# Altium footprint library con-molex-micro-fit-3_0.PCBLIB: 194 footprints (part 3 of 13)
Each footprint in its own frame and in the unit in brackets; x right, y up, seen from the top. Pads: shape width x height; smd on the part's side, far side on the other; paste and mask are expansions set on the pad; w line width, h text height; cw(c..) or ccw(c..) is an arc to the next point about the centre after c.
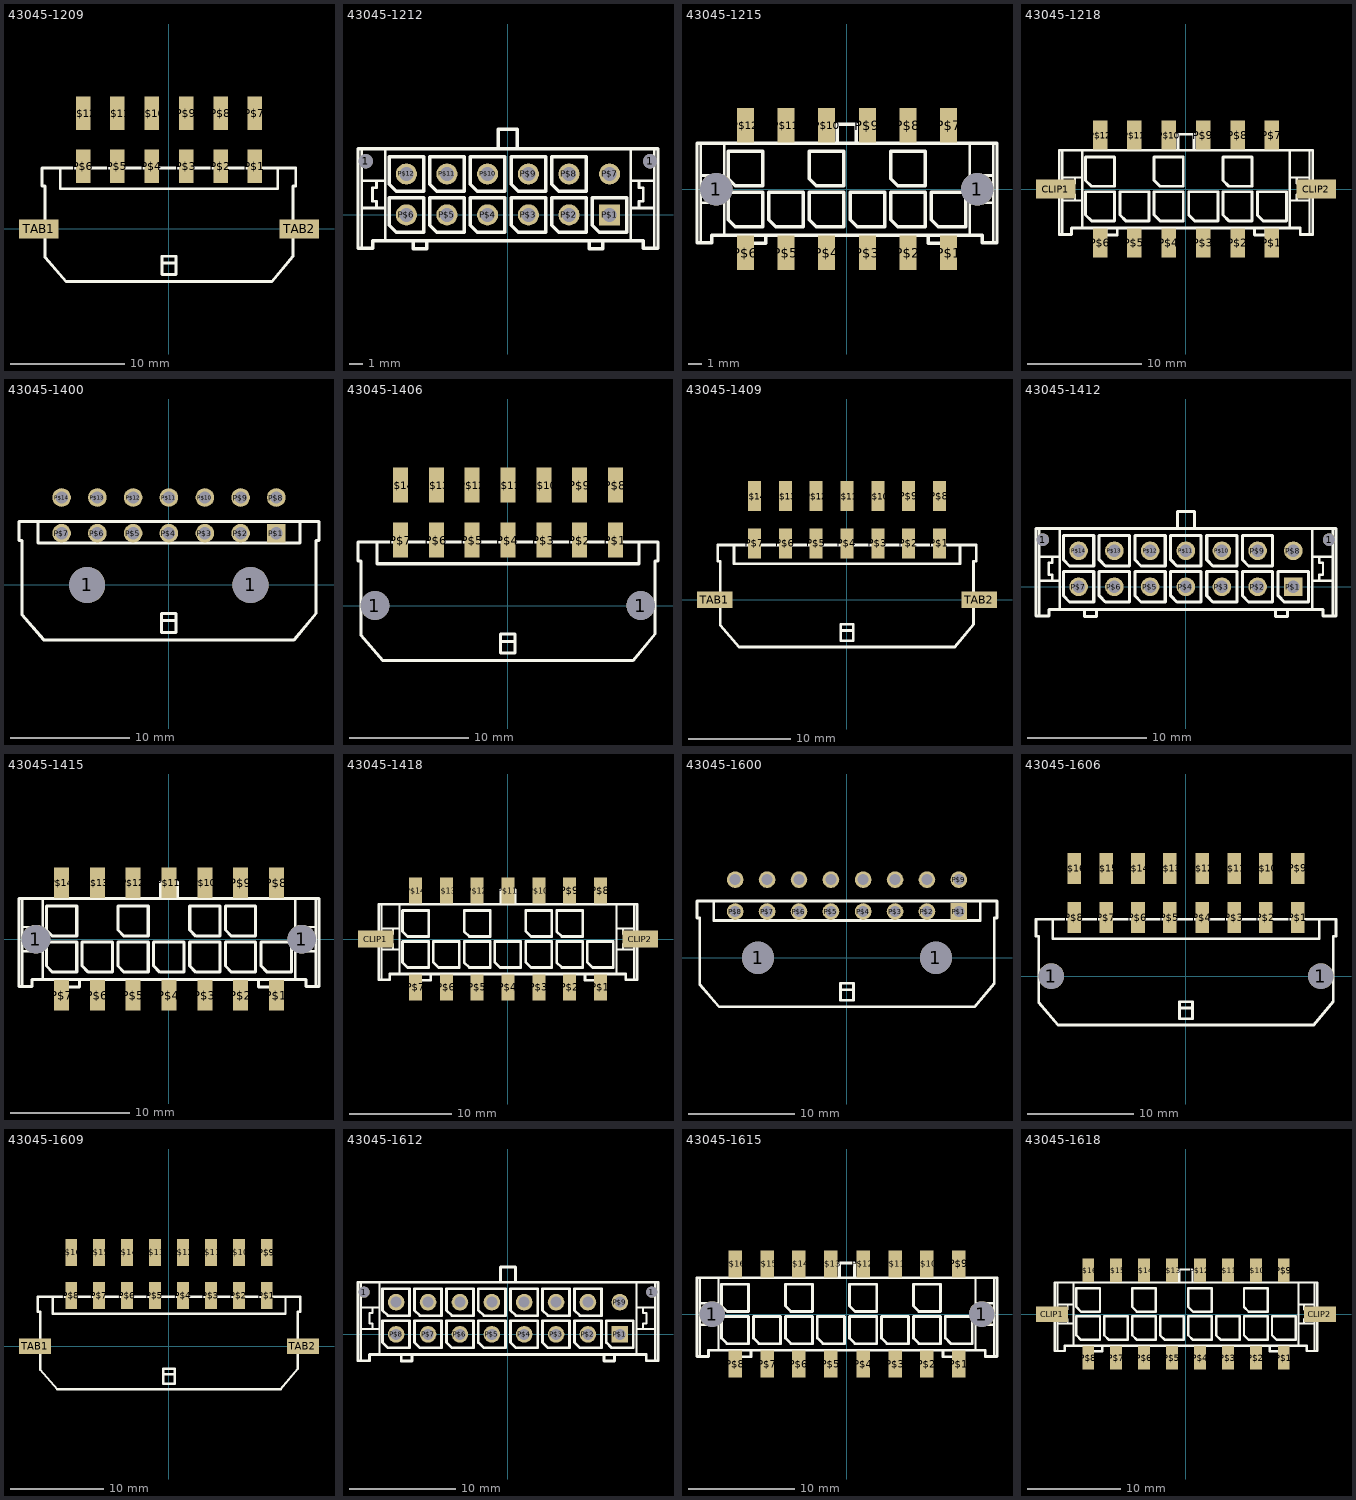
[diagram p2: the footprints below, top view; thin cyan lines are the x and y axes]

## 43045-1209 [mil]
pads (14):
  rect 50x115 smd: P$1(296,216) P$2(178,216) P$3(60,216) P$4(-59.06,216) P$5(-177.17,216) P$6(-295.28,216) P$7(296,398) P$8(178,398) P$9(60,398) P$10(-59.06,398) P$11(-177.17,398) P$12(-295.28,398)
  rect 136x65 smd: TAB1(-448.03,0) TAB2(449,0)
Top Overlay:
  lines w5: -190.16,210 -374.02,210 -189.96,210
  lines w10: -374.02,210 -436.22,210 -436.22,147 -426.18,147 -426.18,-98.43 -354.33,-181.1 355,-181.1 427,-94.49 427,147 437,147 437,210 375,210 ; -374.02,210 375,210 ; -374.02,210 -374.02,138 375,138 375,210 ; -23.62,-118.11 -23.62,-157.48 24,-157.48 24,-118.11 ; -23.62,-118.11 -23.62,-94.49 24,-94.49 24,-118.11 ; -23.62,-118.11 24,-118.11

## 43045-1212 [mil]
pads (14):
  round 41 hole 41: 1(-413.39,156) 1(414,156)
  rect 61.5x61.5 hole 41: P$1(296,0)
  round 61.5 hole 41: P$2(178,0) P$3(60,0) P$4(-59.06,0) P$5(-177.17,0) P$6(-295.28,0) P$7(296,119) P$8(178,119) P$9(60,119) P$10(-59.06,119) P$11(-177.17,119) P$12(-295.28,119)
Top Overlay:
  lines w8: -425.2,-97.24 -425.2,20 ; -425.2,193 -425.2,99 ; -357.09,-74.8 -357.09,20 ; -357.09,193 -357.09,99 ; 358,-74.8 358,20 ; 358,193 358,99 ; 426,-97.24 426,20 ; 426,193 426,99 ; -425.2,20 -425.2,99 ; -425.2,20 -381.89,20 ; -425.2,99 -381.89,99 ; -381.89,20 -357.09,20 ; -381.89,20 -381.89,40 -393.7,40 -393.7,79 -381.89,79 -381.89,99 ; -381.89,99 -357.09,99 ; -357.09,20 -357.09,99 ; 358,20 358,99 ; 358,20 382,20 ; 358,99 382,99 ; 382,20 426,20 ; 382,20 382,40 394,40 394,79 382,79 382,99 ; 382,99 426,99 ; 426,20 426,99
  lines w10: -275.59,-74.8 -236.22,-74.8 ; -275.59,-74.8 -357.09,-74.8 -393.7,-74.8 -393.7,-97.24 -425.2,-97.24 -436.02,-97.24 -436.02,193 -425.2,193 -357.09,193 -27.56,193 ; -275.59,-74.8 -275.59,-98.43 -236.22,-98.43 -236.22,-74.8 ; -236.22,-74.8 237,-74.8 ; -27.56,193 28,193 ; -27.56,193 -27.56,249 28,249 28,193 ; 28,193 358,193 426,193 437,193 437,-97.24 426,-97.24 394,-97.24 394,-74.8 358,-74.8 276,-74.8 ; 237,-74.8 276,-74.8 ; 237,-74.8 237,-98.43 276,-98.43 276,-74.8 ; -345.28,-30 -345.28,50 -245.28,50 -245.28,-50 -325.28,-50 -345.28,-30 ; -345.28,89 -345.28,169 -245.28,169 -245.28,69 -325.28,69 -345.28,89 ; -227.17,-30 -227.17,50 -127.17,50 -127.17,-50 -207.17,-50 -227.17,-30 ; -227.17,89 -227.17,169 -127.17,169 -127.17,69 -207.17,69 -227.17,89 ; -109.06,-30 -109.06,50 -9.06,50 -9.06,-50 -89.06,-50 -109.06,-30 ; -109.06,89 -109.06,169 -9.06,169 -9.06,69 -89.06,69 -109.06,89 ; 10,-30 10,50 110,50 110,-50 30,-50 10,-30 ; 10,89 10,169 110,169 110,69 30,69 10,89 ; 128,-30 128,50 228,50 228,-50 148,-50 128,-30 ; 128,89 128,169 228,169 228,69 148,69 128,89 ; 246,-30 246,50 346,50 346,-50 266,-50 246,-30
Bottom Overlay:
  lines w10: 246,69 246,169 346,169 346,89 326,69 246,69

## 43045-1215 [mil]
pads (14):
  round 95 hole 95: 1(-379.92,0) 1(380,0)
  rect 50x100 smd: P$1(296,-185.04) P$2(178,-185.04) P$3(60,-185.04) P$4(-59.06,-185.04) P$5(-177.17,-185.04) P$6(-295.28,-185.04) P$7(296,186) P$8(178,186) P$9(60,186) P$10(-59.06,186) P$11(-177.17,186) P$12(-295.28,186)
Top Overlay:
  lines w8: -425.2,-156.3 -425.2,-39.37 ; -425.2,134 -425.2,40 ; -357.09,-133.86 -357.09,-39.37 ; -357.09,134 -357.09,40 ; 358,-133.86 358,-39.37 ; 358,134 358,40 ; 426,-156.3 426,-39.37 ; 426,134 426,40 ; -425.2,-39.37 -425.2,40 ; -425.2,-39.37 -381.89,-39.37 ; -425.2,40 -381.89,40 ; -381.89,-39.37 -357.09,-39.37 ; -381.89,-39.37 -381.89,-19.68 -393.7,-19.68 -393.7,20 -381.89,20 -381.89,40 ; -381.89,40 -357.09,40 ; -357.09,-39.37 -357.09,40 ; 358,-39.37 358,40 ; 358,-39.37 382,-39.37 ; 358,40 382,40 ; 382,-39.37 426,-39.37 ; 382,-39.37 382,-19.68 394,-19.68 394,20 382,20 382,40 ; 382,40 426,40 ; 426,-39.37 426,40
  lines w10: -275.59,-133.86 -236.22,-133.86 ; -275.59,-133.86 -357.09,-133.86 -393.7,-133.86 -393.7,-156.3 -425.2,-156.3 -436.02,-156.3 -436.02,134 -425.2,134 -357.09,134 -27.56,134 ; -275.59,-133.86 -275.59,-157.48 -236.22,-157.48 -236.22,-133.86 ; -236.22,-133.86 237,-133.86 ; -27.56,134 28,134 ; -27.56,134 -27.56,189 28,189 28,134 ; 28,134 358,134 426,134 437,134 437,-156.3 426,-156.3 394,-156.3 394,-133.86 358,-133.86 276,-133.86 ; 237,-133.86 276,-133.86 ; 237,-133.86 237,-157.48 276,-157.48 276,-133.86 ; -345.28,-89.06 -345.28,-9.06 -245.28,-9.06 -245.28,-109.06 -325.28,-109.06 -345.28,-89.06 ; -345.28,30 -345.28,110 -245.28,110 -245.28,10 -325.28,10 -345.28,30 ; -227.17,-89.06 -227.17,-9.06 -127.17,-9.06 -127.17,-109.06 -207.17,-109.06 -227.17,-89.06 ; -109.06,-89.06 -109.06,-9.06 -9.06,-9.06 -9.06,-109.06 -89.06,-109.06 -109.06,-89.06 ; -109.06,30 -109.06,110 -9.06,110 -9.06,10 -89.06,10 -109.06,30 ; 10,-89.06 10,-9.06 110,-9.06 110,-109.06 30,-109.06 10,-89.06 ; 128,-89.06 128,-9.06 228,-9.06 228,-109.06 148,-109.06 128,-89.06 ; 128,30 128,110 228,110 228,10 148,10 128,30 ; 246,-89.06 246,-9.06 346,-9.06 346,-109.06 266,-109.06 246,-89.06
Bottom Overlay:
  lines w10: -227.17,10 -227.17,110 -127.17,110 -127.17,30 -147.17,10 -227.17,10 ; 10,10 10,110 110,110 110,30 90,10 10,10 ; 246,10 246,110 346,110 346,30 326,10 246,10

## 43045-1218 [mil]
pads (14):
  rect 136x65 smd: CLIP1(-448.03,0) CLIP2(449,0)
  rect 50x100 smd: P$1(296,-185.04) P$2(178,-185.04) P$3(60,-185.04) P$4(-59.06,-185.04) P$5(-177.17,-185.04) P$6(-295.28,-185.04) P$7(296,186) P$8(178,186) P$9(60,186) P$10(-59.06,186) P$11(-177.17,186) P$12(-295.28,186)
Top Overlay:
  lines w8: -425.2,-156.3 -425.2,-39.37 ; -425.2,134 -425.2,40 ; -357.09,-133.86 -357.09,-39.37 ; -357.09,134 -357.09,40 ; 358,-133.86 358,-39.37 ; 358,134 358,40 ; 426,-156.3 426,-39.37 ; 426,134 426,40 ; -425.2,-39.37 -425.2,40 ; -425.2,-39.37 -381.89,-39.37 ; -425.2,40 -381.89,40 ; -381.89,-39.37 -357.09,-39.37 ; -381.89,-39.37 -381.89,-19.68 -393.7,-19.68 -393.7,20 -381.89,20 -381.89,40 ; -381.89,40 -357.09,40 ; -357.09,-39.37 -357.09,40 ; 358,-39.37 358,40 ; 358,-39.37 382,-39.37 ; 358,40 382,40 ; 382,-39.37 426,-39.37 ; 382,-39.37 382,-19.68 394,-19.68 394,20 382,20 382,40 ; 382,40 426,40 ; 426,-39.37 426,40
  lines w10: -275.59,-133.86 -236.22,-133.86 ; -275.59,-133.86 -357.09,-133.86 -393.7,-133.86 -393.7,-156.3 -425.2,-156.3 -436.02,-156.3 -436.02,134 -425.2,134 -357.09,134 -27.56,134 ; -275.59,-133.86 -275.59,-157.48 -236.22,-157.48 -236.22,-133.86 ; -236.22,-133.86 237,-133.86 ; -27.56,134 28,134 ; -27.56,134 -27.56,189 28,189 28,134 ; 28,134 358,134 426,134 437,134 437,-156.3 426,-156.3 394,-156.3 394,-133.86 358,-133.86 276,-133.86 ; 237,-133.86 276,-133.86 ; 237,-133.86 237,-157.48 276,-157.48 276,-133.86 ; -345.28,-89.06 -345.28,-9.06 -245.28,-9.06 -245.28,-109.06 -325.28,-109.06 -345.28,-89.06 ; -345.28,30 -345.28,110 -245.28,110 -245.28,10 -325.28,10 -345.28,30 ; -227.17,-89.06 -227.17,-9.06 -127.17,-9.06 -127.17,-109.06 -207.17,-109.06 -227.17,-89.06 ; -109.06,-89.06 -109.06,-9.06 -9.06,-9.06 -9.06,-109.06 -89.06,-109.06 -109.06,-89.06 ; -109.06,30 -109.06,110 -9.06,110 -9.06,10 -89.06,10 -109.06,30 ; 10,-89.06 10,-9.06 110,-9.06 110,-109.06 30,-109.06 10,-89.06 ; 128,-89.06 128,-9.06 228,-9.06 228,-109.06 148,-109.06 128,-89.06 ; 128,30 128,110 228,110 228,10 148,10 128,30 ; 246,-89.06 246,-9.06 346,-9.06 346,-109.06 266,-109.06 246,-89.06
Bottom Overlay:
  lines w10: -227.17,10 -227.17,110 -127.17,110 -127.17,30 -147.17,10 -227.17,10 ; 10,10 10,110 110,110 110,30 90,10 10,10 ; 246,10 246,110 346,110 346,30 326,10 246,10

## 43045-1400 [mil]
pads (16):
  round 119 hole 119: 1(-269.69,0) 1(270,0)
  rect 61.5x61.5 hole 41: P$1(355,171)
  round 61.5 hole 41: P$2(237,171) P$3(119,171) P$4(0,171) P$5(-118.11,171) P$6(-236.22,171) P$7(-354.33,171) P$8(355,289) P$9(237,289) P$10(119,289) P$11(0,289) P$12(-118.11,289) P$13(-236.22,289) P$14(-354.33,289)
Top Overlay:
  lines w5: -190.16,210 -433.07,210 -189.96,210
  lines w10: -433.07,210 -495.08,210 -495.08,147 -485.24,147 -485.24,-98.43 -413.39,-181.1 414,-181.1 486,-94.49 486,147 496,147 496,210 434,210 ; -433.07,210 434,210 ; -433.07,210 -433.07,138 434,138 434,210 ; -23.62,-118.11 -23.62,-157.48 24,-157.48 24,-118.11 ; -23.62,-118.11 -23.62,-94.49 24,-94.49 24,-118.11 ; -23.62,-118.11 24,-118.11

## 43045-1406 [mil]
pads (16):
  round 95 hole 95: 1(-438.98,0) 1(439,0)
  rect 50x115 smd: P$1(355,216) P$2(237,216) P$3(119,216) P$4(0,216) P$5(-118.11,216) P$6(-236.22,216) P$7(-354.33,216) P$8(355,398) P$9(237,398) P$10(119,398) P$11(0,398) P$12(-118.11,398) P$13(-236.22,398) P$14(-354.33,398)
Top Overlay:
  lines w5: -190.16,210 -433.07,210 -189.96,210
  lines w10: -433.07,210 -495.08,210 -495.08,147 -485.24,147 -485.24,-98.43 -413.39,-181.1 414,-181.1 486,-94.49 486,147 496,147 496,210 434,210 ; -433.07,210 434,210 ; -433.07,210 -433.07,138 434,138 434,210 ; -23.62,-118.11 -23.62,-157.48 24,-157.48 24,-118.11 ; -23.62,-118.11 -23.62,-94.49 24,-94.49 24,-118.11 ; -23.62,-118.11 24,-118.11

## 43045-1409 [mil]
pads (16):
  rect 50x115 smd: P$1(355,216) P$2(237,216) P$3(119,216) P$4(0,216) P$5(-118.11,216) P$6(-236.22,216) P$7(-354.33,216) P$8(355,398) P$9(237,398) P$10(119,398) P$11(0,398) P$12(-118.11,398) P$13(-236.22,398) P$14(-354.33,398)
  rect 136x65 smd: TAB1(-507.09,0) TAB2(508,0)
Top Overlay:
  lines w5: -190.16,210 -433.07,210 -189.96,210
  lines w10: -433.07,210 -495.08,210 -495.08,147 -485.24,147 -485.24,-98.43 -413.39,-181.1 414,-181.1 486,-94.49 486,147 496,147 496,210 434,210 ; -433.07,210 434,210 ; -433.07,210 -433.07,138 434,138 434,210 ; -23.62,-118.11 -23.62,-157.48 24,-157.48 24,-118.11 ; -23.62,-118.11 -23.62,-94.49 24,-94.49 24,-118.11 ; -23.62,-118.11 24,-118.11

## 43045-1412 [mil]
pads (16):
  round 41 hole 41: 1(-472.44,156) 1(473,156)
  rect 61.5x61.5 hole 41: P$1(355,0)
  round 61.5 hole 41: P$2(237,0) P$3(119,0) P$4(0,0) P$5(-118.11,0) P$6(-236.22,0) P$7(-354.33,0) P$8(355,119) P$9(237,119) P$10(119,119) P$11(0,119) P$12(-118.11,119) P$13(-236.22,119) P$14(-354.33,119)
Top Overlay:
  lines w8: -484.25,-97.24 -484.25,20 ; -484.25,193 -484.25,99 ; -416.14,-74.8 -416.14,20 ; -416.14,193 -416.14,99 ; 417,-74.8 417,20 ; 417,193 417,99 ; 485,-97.24 485,20 ; 485,193 485,99 ; -484.25,20 -440.94,20 ; -484.25,20 -484.25,99 ; -484.25,99 -440.94,99 ; -440.94,20 -440.94,40 -452.76,40 -452.76,79 -440.94,79 -440.94,99 ; -440.94,20 -416.14,20 ; -440.94,99 -416.14,99 ; -416.14,20 -416.14,99 ; 417,20 441,20 ; 417,20 417,99 ; 417,99 441,99 ; 441,20 441,40 453,40 453,79 441,79 441,99 ; 441,20 485,20 ; 441,99 485,99 ; 485,20 485,99
  lines w10: -334.65,-74.8 -334.65,-98.43 -295.28,-98.43 -295.28,-74.8 ; -334.65,-74.8 -416.14,-74.8 -452.76,-74.8 -452.76,-97.24 -484.25,-97.24 -495.08,-97.24 -495.08,193 -484.25,193 -416.14,193 -27.56,193 ; -334.65,-74.8 -295.28,-74.8 ; -295.28,-74.8 296,-74.8 ; -27.56,193 -27.56,249 28,249 28,193 ; -27.56,193 28,193 ; 28,193 417,193 485,193 496,193 496,-97.24 485,-97.24 453,-97.24 453,-74.8 417,-74.8 335,-74.8 ; 296,-74.8 296,-98.43 335,-98.43 335,-74.8 ; 296,-74.8 335,-74.8 ; -404.33,-30 -384.33,-50 -304.33,-50 -304.33,50 -404.33,50 -404.33,-30 ; -404.33,89 -384.33,69 -304.33,69 -304.33,169 -404.33,169 -404.33,89 ; -286.22,-30 -266.22,-50 -186.22,-50 -186.22,50 -286.22,50 -286.22,-30 ; -286.22,89 -266.22,69 -186.22,69 -186.22,169 -286.22,169 -286.22,89 ; -168.11,-30 -148.11,-50 -68.11,-50 -68.11,50 -168.11,50 -168.11,-30 ; -168.11,89 -148.11,69 -68.11,69 -68.11,169 -168.11,169 -168.11,89 ; -50,-30 -30,-50 50,-50 50,50 -50,50 -50,-30 ; -50,89 -30,69 50,69 50,169 -50,169 -50,89 ; 69,-30 89,-50 169,-50 169,50 69,50 69,-30 ; 69,89 89,69 169,69 169,169 69,169 69,89 ; 187,-30 207,-50 287,-50 287,50 187,50 187,-30 ; 187,89 207,69 287,69 287,169 187,169 187,89 ; 305,-30 325,-50 405,-50 405,50 305,50 305,-30
Bottom Overlay:
  lines w10: 305,69 385,69 405,89 405,169 305,169 305,69

## 43045-1415 [mil]
pads (16):
  round 95 hole 95: 1(-438.98,0) 1(439,0)
  rect 50x100 smd: P$1(355,-185.04) P$2(237,-185.04) P$3(119,-185.04) P$4(0,-185.04) P$5(-118.11,-185.04) P$6(-236.22,-185.04) P$7(-354.33,-185.04) P$8(355,186) P$9(237,186) P$10(119,186) P$11(0,186) P$12(-118.11,186) P$13(-236.22,186) P$14(-354.33,186)
Top Overlay:
  lines w8: -484.25,-156.3 -484.25,-39.37 ; -484.25,134 -484.25,40 ; -416.14,-133.86 -416.14,-39.37 ; -416.14,134 -416.14,40 ; 417,-133.86 417,-39.37 ; 417,134 417,40 ; 485,-156.3 485,-39.37 ; 485,134 485,40 ; -484.25,-39.37 -484.25,40 ; -484.25,-39.37 -440.94,-39.37 ; -484.25,40 -440.94,40 ; -440.94,-39.37 -416.14,-39.37 ; -440.94,-39.37 -440.94,-19.68 -452.76,-19.68 -452.76,20 -440.94,20 -440.94,40 ; -440.94,40 -416.14,40 ; -416.14,-39.37 -416.14,40 ; 417,-39.37 417,40 ; 417,-39.37 441,-39.37 ; 417,40 441,40 ; 441,-39.37 485,-39.37 ; 441,-39.37 441,-19.68 453,-19.68 453,20 441,20 441,40 ; 441,40 485,40 ; 485,-39.37 485,40
  lines w10: -334.65,-133.86 -295.28,-133.86 ; -334.65,-133.86 -416.14,-133.86 -452.76,-133.86 -452.76,-156.3 -484.25,-156.3 -495.08,-156.3 -495.08,134 -484.25,134 -416.14,134 -27.56,134 ; -334.65,-133.86 -334.65,-157.48 -295.28,-157.48 -295.28,-133.86 ; -295.28,-133.86 296,-133.86 ; -27.56,134 28,134 ; -27.56,134 -27.56,189 28,189 28,134 ; 28,134 417,134 485,134 496,134 496,-156.3 485,-156.3 453,-156.3 453,-133.86 417,-133.86 335,-133.86 ; 296,-133.86 335,-133.86 ; 296,-133.86 296,-157.48 335,-157.48 335,-133.86 ; -404.33,-89.06 -404.33,-9.06 -304.33,-9.06 -304.33,-109.06 -384.33,-109.06 -404.33,-89.06 ; -404.33,30 -404.33,110 -304.33,110 -304.33,10 -384.33,10 -404.33,30 ; -286.22,-89.06 -286.22,-9.06 -186.22,-9.06 -186.22,-109.06 -266.22,-109.06 -286.22,-89.06 ; -168.11,-89.06 -168.11,-9.06 -68.11,-9.06 -68.11,-109.06 -148.11,-109.06 -168.11,-89.06 ; -168.11,30 -168.11,110 -68.11,110 -68.11,10 -148.11,10 -168.11,30 ; -50,-89.06 -50,-9.06 50,-9.06 50,-109.06 -30,-109.06 -50,-89.06 ; 69,-89.06 69,-9.06 169,-9.06 169,-109.06 89,-109.06 69,-89.06 ; 69,30 69,110 169,110 169,10 89,10 69,30 ; 187,-89.06 187,-9.06 287,-9.06 287,-109.06 207,-109.06 187,-89.06 ; 187,30 187,110 287,110 287,10 207,10 187,30 ; 305,-89.06 305,-9.06 405,-9.06 405,-109.06 325,-109.06 305,-89.06
Bottom Overlay:
  lines w10: -286.22,10 -286.22,110 -186.22,110 -186.22,30 -206.22,10 -286.22,10 ; -50,10 -50,110 50,110 50,30 30,10 -50,10 ; 305,10 305,110 405,110 405,30 385,10 305,10

## 43045-1418 [mil]
pads (16):
  rect 136x65 smd: CLIP1(-507.09,0) CLIP2(508,0)
  rect 50x100 smd: P$1(355,-185.04) P$2(237,-185.04) P$3(119,-185.04) P$4(0,-185.04) P$5(-118.11,-185.04) P$6(-236.22,-185.04) P$7(-354.33,-185.04) P$8(355,186) P$9(237,186) P$10(119,186) P$11(0,186) P$12(-118.11,186) P$13(-236.22,186) P$14(-354.33,186)
Top Overlay:
  lines w8: -484.25,-156.3 -484.25,-39.37 ; -484.25,134 -484.25,40 ; -416.14,-133.86 -416.14,-39.37 ; -416.14,134 -416.14,40 ; 417,-133.86 417,-39.37 ; 417,134 417,40 ; 485,-156.3 485,-39.37 ; 485,134 485,40 ; -484.25,-39.37 -484.25,40 ; -484.25,-39.37 -440.94,-39.37 ; -484.25,40 -440.94,40 ; -440.94,-39.37 -416.14,-39.37 ; -440.94,-39.37 -440.94,-19.68 -452.76,-19.68 -452.76,20 -440.94,20 -440.94,40 ; -440.94,40 -416.14,40 ; -416.14,-39.37 -416.14,40 ; 417,-39.37 417,40 ; 417,-39.37 441,-39.37 ; 417,40 441,40 ; 441,-39.37 485,-39.37 ; 441,-39.37 441,-19.68 453,-19.68 453,20 441,20 441,40 ; 441,40 485,40 ; 485,-39.37 485,40
  lines w10: -334.65,-133.86 -295.28,-133.86 ; -334.65,-133.86 -416.14,-133.86 -452.76,-133.86 -452.76,-156.3 -484.25,-156.3 -495.08,-156.3 -495.08,134 -484.25,134 -416.14,134 -27.56,134 ; -334.65,-133.86 -334.65,-157.48 -295.28,-157.48 -295.28,-133.86 ; -295.28,-133.86 296,-133.86 ; -27.56,134 28,134 ; -27.56,134 -27.56,189 28,189 28,134 ; 28,134 417,134 485,134 496,134 496,-156.3 485,-156.3 453,-156.3 453,-133.86 417,-133.86 335,-133.86 ; 296,-133.86 335,-133.86 ; 296,-133.86 296,-157.48 335,-157.48 335,-133.86 ; -404.33,-89.06 -404.33,-9.06 -304.33,-9.06 -304.33,-109.06 -384.33,-109.06 -404.33,-89.06 ; -404.33,30 -404.33,110 -304.33,110 -304.33,10 -384.33,10 -404.33,30 ; -286.22,-89.06 -286.22,-9.06 -186.22,-9.06 -186.22,-109.06 -266.22,-109.06 -286.22,-89.06 ; -168.11,-89.06 -168.11,-9.06 -68.11,-9.06 -68.11,-109.06 -148.11,-109.06 -168.11,-89.06 ; -168.11,30 -168.11,110 -68.11,110 -68.11,10 -148.11,10 -168.11,30 ; -50,-89.06 -50,-9.06 50,-9.06 50,-109.06 -30,-109.06 -50,-89.06 ; 69,-89.06 69,-9.06 169,-9.06 169,-109.06 89,-109.06 69,-89.06 ; 69,30 69,110 169,110 169,10 89,10 69,30 ; 187,-89.06 187,-9.06 287,-9.06 287,-109.06 207,-109.06 187,-89.06 ; 187,30 187,110 287,110 287,10 207,10 187,30 ; 305,-89.06 305,-9.06 405,-9.06 405,-109.06 325,-109.06 305,-89.06
Bottom Overlay:
  lines w10: -286.22,10 -286.22,110 -186.22,110 -186.22,30 -206.22,10 -286.22,10 ; -50,10 -50,110 50,110 50,30 30,10 -50,10 ; 305,10 305,110 405,110 405,30 385,10 305,10

## 43045-1600 [mil]
pads (18):
  round 119 hole 119: 1(-328.74,0) 1(329,0)
  rect 61.5x61.5 hole 41: P$1(414,171)
  round 61.5 hole 41: P$2(296,171) P$3(178,171) P$4(60,171) P$5(-59.06,171) P$6(-177.17,171) P$7(-295.28,171) P$8(-413.39,171) P$9(414,289) P$10(296,289) P$11(178,289) P$12(60,289) P$13(-59.06,289) P$14(-177.17,289) P$15(-295.28,289) P$16(-413.39,289)
Top Overlay:
  lines w5: -190.16,210 -492.13,210 -189.96,210
  lines w10: -492.13,210 -554.33,210 -554.33,147 -544.29,147 -544.29,-98.43 -472.44,-181.1 473,-181.1 545,-94.49 545,147 555,147 555,210 493,210 ; -492.13,210 493,210 ; -492.13,210 -492.13,138 493,138 493,210 ; -23.62,-118.11 -23.62,-157.48 24,-157.48 24,-118.11 ; -23.62,-118.11 -23.62,-94.49 24,-94.49 24,-118.11 ; -23.62,-118.11 24,-118.11

## 43045-1606 [mil]
pads (18):
  round 95 hole 95: 1(-498.03,0) 1(499,0)
  rect 50x115 smd: P$1(414,216) P$2(296,216) P$3(178,216) P$4(60,216) P$5(-59.06,216) P$6(-177.17,216) P$7(-295.28,216) P$8(-413.39,216) P$9(414,398) P$10(296,398) P$11(178,398) P$12(60,398) P$13(-59.06,398) P$14(-177.17,398) P$15(-295.28,398) P$16(-413.39,398)
Top Overlay:
  lines w5: -190.16,210 -492.13,210 -189.96,210
  lines w10: -492.13,210 -554.33,210 -554.33,147 -544.29,147 -544.29,-98.43 -472.44,-181.1 473,-181.1 545,-94.49 545,147 555,147 555,210 493,210 ; -492.13,210 493,210 ; -492.13,210 -492.13,138 493,138 493,210 ; -23.62,-118.11 -23.62,-157.48 24,-157.48 24,-118.11 ; -23.62,-118.11 -23.62,-94.49 24,-94.49 24,-118.11 ; -23.62,-118.11 24,-118.11

## 43045-1609 [mil]
pads (18):
  rect 50x115 smd: P$1(414,216) P$2(296,216) P$3(178,216) P$4(60,216) P$5(-59.06,216) P$6(-177.17,216) P$7(-295.28,216) P$8(-413.39,216) P$9(414,398) P$10(296,398) P$11(178,398) P$12(60,398) P$13(-59.06,398) P$14(-177.17,398) P$15(-295.28,398) P$16(-413.39,398)
  rect 136x65 smd: TAB1(-566.14,0) TAB2(567,0)
Top Overlay:
  lines w5: -190.16,210 -492.13,210 -189.96,210
  lines w10: -492.13,210 -554.33,210 -554.33,147 -544.29,147 -544.29,-98.43 -472.44,-181.1 473,-181.1 545,-94.49 545,147 555,147 555,210 493,210 ; -492.13,210 493,210 ; -492.13,210 -492.13,138 493,138 493,210 ; -23.62,-118.11 -23.62,-157.48 24,-157.48 24,-118.11 ; -23.62,-118.11 -23.62,-94.49 24,-94.49 24,-118.11 ; -23.62,-118.11 24,-118.11

## 43045-1612 [mil]
pads (18):
  round 41 hole 41: 1(-531.5,156) 1(532,156)
  rect 61.5x61.5 hole 41: P$1(414,0)
  round 61.5 hole 41: P$2(296,0) P$3(178,0) P$4(60,0) P$5(-59.06,0) P$6(-177.17,0) P$7(-295.28,0) P$8(-413.39,0) P$9(414,119) P$10(296,119) P$11(178,119) P$12(60,119) P$13(-59.06,119) P$14(-177.17,119) P$15(-295.28,119) P$16(-413.39,119)
Top Overlay:
  lines w8: -543.31,-97.24 -543.31,20 ; -543.31,193 -543.31,99 ; -475.2,-74.8 -475.2,20 ; -475.2,193 -475.2,99 ; 476,-74.8 476,20 ; 476,193 476,99 ; 544,-97.24 544,20 ; 544,193 544,99 ; -543.31,20 -543.31,99 ; -543.31,20 -500,20 ; -543.31,99 -500,99 ; -500,20 -475.2,20 ; -500,20 -500,40 -511.81,40 -511.81,79 -500,79 -500,99 ; -500,99 -475.2,99 ; -475.2,20 -475.2,99 ; 476,20 476,99 ; 476,20 500,20 ; 476,99 500,99 ; 500,20 544,20 ; 500,20 500,40 512,40 512,79 500,79 500,99 ; 500,99 544,99 ; 544,20 544,99
  lines w10: -393.7,-74.8 -354.33,-74.8 ; -393.7,-74.8 -475.2,-74.8 -511.81,-74.8 -511.81,-97.24 -543.31,-97.24 -554.13,-97.24 -554.13,193 -543.31,193 -475.2,193 -27.56,193 ; -393.7,-74.8 -393.7,-98.43 -354.33,-98.43 -354.33,-74.8 ; -354.33,-74.8 355,-74.8 ; -27.56,193 28,193 ; -27.56,193 -27.56,249 28,249 28,193 ; 28,193 476,193 544,193 555,193 555,-97.24 544,-97.24 512,-97.24 512,-74.8 476,-74.8 394,-74.8 ; 355,-74.8 394,-74.8 ; 355,-74.8 355,-98.43 394,-98.43 394,-74.8 ; -463.39,-30 -463.39,50 -363.39,50 -363.39,-50 -443.39,-50 -463.39,-30 ; -463.39,89 -463.39,169 -363.39,169 -363.39,69 -443.39,69 -463.39,89 ; -345.28,-30 -345.28,50 -245.28,50 -245.28,-50 -325.28,-50 -345.28,-30 ; -345.28,89 -345.28,169 -245.28,169 -245.28,69 -325.28,69 -345.28,89 ; -227.17,-30 -227.17,50 -127.17,50 -127.17,-50 -207.17,-50 -227.17,-30 ; -227.17,89 -227.17,169 -127.17,169 -127.17,69 -207.17,69 -227.17,89 ; -109.06,-30 -109.06,50 -9.06,50 -9.06,-50 -89.06,-50 -109.06,-30 ; -109.06,89 -109.06,169 -9.06,169 -9.06,69 -89.06,69 -109.06,89 ; 10,-30 10,50 110,50 110,-50 30,-50 10,-30 ; 10,89 10,169 110,169 110,69 30,69 10,89 ; 128,-30 128,50 228,50 228,-50 148,-50 128,-30 ; 128,89 128,169 228,169 228,69 148,69 128,89 ; 246,-30 246,50 346,50 346,-50 266,-50 246,-30 ; 246,89 246,169 346,169 346,69 266,69 246,89 ; 364,-30 364,50 464,50 464,-50 384,-50 364,-30
Bottom Overlay:
  lines w10: 364,69 364,169 464,169 464,89 444,69 364,69

## 43045-1615 [mil]
pads (18):
  round 95 hole 95: 1(-498.03,0) 1(499,0)
  rect 50x100 smd: P$1(414,-185.04) P$2(296,-185.04) P$3(178,-185.04) P$4(60,-185.04) P$5(-59.06,-185.04) P$6(-177.17,-185.04) P$7(-295.28,-185.04) P$8(-413.39,-185.04) P$9(414,186) P$10(296,186) P$11(178,186) P$12(60,186) P$13(-59.06,186) P$14(-177.17,186) P$15(-295.28,186) P$16(-413.39,186)
Top Overlay:
  lines w8: -543.31,-156.3 -543.31,-39.37 ; -543.31,134 -543.31,40 ; -475.2,-133.86 -475.2,-39.37 ; -475.2,134 -475.2,40 ; 476,-133.86 476,-39.37 ; 476,134 476,40 ; 544,-156.3 544,-39.37 ; 544,134 544,40 ; -543.31,-39.37 -543.31,40 ; -543.31,-39.37 -500,-39.37 ; -543.31,40 -500,40 ; -500,-39.37 -475.2,-39.37 ; -500,-39.37 -500,-19.68 -511.81,-19.68 -511.81,20 -500,20 -500,40 ; -500,40 -475.2,40 ; -475.2,-39.37 -475.2,40 ; 476,-39.37 476,40 ; 476,-39.37 500,-39.37 ; 476,40 500,40 ; 500,-39.37 544,-39.37 ; 500,-39.37 500,-19.68 512,-19.68 512,20 500,20 500,40 ; 500,40 544,40 ; 544,-39.37 544,40
  lines w10: -393.7,-133.86 -354.33,-133.86 ; -393.7,-133.86 -475.2,-133.86 -511.81,-133.86 -511.81,-156.3 -543.31,-156.3 -554.13,-156.3 -554.13,134 -543.31,134 -475.2,134 -27.56,134 ; -393.7,-133.86 -393.7,-157.48 -354.33,-157.48 -354.33,-133.86 ; -354.33,-133.86 355,-133.86 ; -27.56,134 28,134 ; -27.56,134 -27.56,189 28,189 28,134 ; 28,134 476,134 544,134 555,134 555,-156.3 544,-156.3 512,-156.3 512,-133.86 476,-133.86 394,-133.86 ; 355,-133.86 394,-133.86 ; 355,-133.86 355,-157.48 394,-157.48 394,-133.86 ; -463.39,-89.06 -463.39,-9.06 -363.39,-9.06 -363.39,-109.06 -443.39,-109.06 -463.39,-89.06 ; -463.39,30 -463.39,110 -363.39,110 -363.39,10 -443.39,10 -463.39,30 ; -345.28,-89.06 -345.28,-9.06 -245.28,-9.06 -245.28,-109.06 -325.28,-109.06 -345.28,-89.06 ; -227.17,-89.06 -227.17,-9.06 -127.17,-9.06 -127.17,-109.06 -207.17,-109.06 -227.17,-89.06 ; -227.17,30 -227.17,110 -127.17,110 -127.17,10 -207.17,10 -227.17,30 ; -109.06,-89.06 -109.06,-9.06 -9.06,-9.06 -9.06,-109.06 -89.06,-109.06 -109.06,-89.06 ; 10,-89.06 10,-9.06 110,-9.06 110,-109.06 30,-109.06 10,-89.06 ; 10,30 10,110 110,110 110,10 30,10 10,30 ; 128,-89.06 128,-9.06 228,-9.06 228,-109.06 148,-109.06 128,-89.06 ; 246,-89.06 246,-9.06 346,-9.06 346,-109.06 266,-109.06 246,-89.06 ; 246,30 246,110 346,110 346,10 266,10 246,30 ; 364,-89.06 364,-9.06 464,-9.06 464,-109.06 384,-109.06 364,-89.06
Bottom Overlay:
  lines w10: -345.28,10 -345.28,110 -245.28,110 -245.28,30 -265.28,10 -345.28,10 ; -109.06,10 -109.06,110 -9.06,110 -9.06,30 -29.06,10 -109.06,10 ; 128,10 128,110 228,110 228,30 208,10 128,10 ; 364,10 364,110 464,110 464,30 444,10 364,10

## 43045-1618 [mil]
pads (18):
  rect 136x65 smd: CLIP1(-566.14,0) CLIP2(567,0)
  rect 50x100 smd: P$1(414,-185.04) P$2(296,-185.04) P$3(178,-185.04) P$4(60,-185.04) P$5(-59.06,-185.04) P$6(-177.17,-185.04) P$7(-295.28,-185.04) P$8(-413.39,-185.04) P$9(414,186) P$10(296,186) P$11(178,186) P$12(60,186) P$13(-59.06,186) P$14(-177.17,186) P$15(-295.28,186) P$16(-413.39,186)
Top Overlay:
  lines w8: -543.31,-156.3 -543.31,-39.37 ; -543.31,134 -543.31,40 ; -475.2,-133.86 -475.2,-39.37 ; -475.2,134 -475.2,40 ; 476,-133.86 476,-39.37 ; 476,134 476,40 ; 544,-156.3 544,-39.37 ; 544,134 544,40 ; -543.31,-39.37 -543.31,40 ; -543.31,-39.37 -500,-39.37 ; -543.31,40 -500,40 ; -500,-39.37 -475.2,-39.37 ; -500,-39.37 -500,-19.68 -511.81,-19.68 -511.81,20 -500,20 -500,40 ; -500,40 -475.2,40 ; -475.2,-39.37 -475.2,40 ; 476,-39.37 476,40 ; 476,-39.37 500,-39.37 ; 476,40 500,40 ; 500,-39.37 544,-39.37 ; 500,-39.37 500,-19.68 512,-19.68 512,20 500,20 500,40 ; 500,40 544,40 ; 544,-39.37 544,40
  lines w10: -393.7,-133.86 -354.33,-133.86 ; -393.7,-133.86 -475.2,-133.86 -511.81,-133.86 -511.81,-156.3 -543.31,-156.3 -554.13,-156.3 -554.13,134 -543.31,134 -475.2,134 -27.56,134 ; -393.7,-133.86 -393.7,-157.48 -354.33,-157.48 -354.33,-133.86 ; -354.33,-133.86 355,-133.86 ; -27.56,134 28,134 ; -27.56,134 -27.56,189 28,189 28,134 ; 28,134 476,134 544,134 555,134 555,-156.3 544,-156.3 512,-156.3 512,-133.86 476,-133.86 394,-133.86 ; 355,-133.86 394,-133.86 ; 355,-133.86 355,-157.48 394,-157.48 394,-133.86 ; -463.39,-89.06 -463.39,-9.06 -363.39,-9.06 -363.39,-109.06 -443.39,-109.06 -463.39,-89.06 ; -463.39,30 -463.39,110 -363.39,110 -363.39,10 -443.39,10 -463.39,30 ; -345.28,-89.06 -345.28,-9.06 -245.28,-9.06 -245.28,-109.06 -325.28,-109.06 -345.28,-89.06 ; -227.17,-89.06 -227.17,-9.06 -127.17,-9.06 -127.17,-109.06 -207.17,-109.06 -227.17,-89.06 ; -227.17,30 -227.17,110 -127.17,110 -127.17,10 -207.17,10 -227.17,30 ; -109.06,-89.06 -109.06,-9.06 -9.06,-9.06 -9.06,-109.06 -89.06,-109.06 -109.06,-89.06 ; 10,-89.06 10,-9.06 110,-9.06 110,-109.06 30,-109.06 10,-89.06 ; 10,30 10,110 110,110 110,10 30,10 10,30 ; 128,-89.06 128,-9.06 228,-9.06 228,-109.06 148,-109.06 128,-89.06 ; 246,-89.06 246,-9.06 346,-9.06 346,-109.06 266,-109.06 246,-89.06 ; 246,30 246,110 346,110 346,10 266,10 246,30 ; 364,-89.06 364,-9.06 464,-9.06 464,-109.06 384,-109.06 364,-89.06
Bottom Overlay:
  lines w10: -345.28,10 -345.28,110 -245.28,110 -245.28,30 -265.28,10 -345.28,10 ; -109.06,10 -109.06,110 -9.06,110 -9.06,30 -29.06,10 -109.06,10 ; 128,10 128,110 228,110 228,30 208,10 128,10 ; 364,10 364,110 464,110 464,30 444,10 364,10